# EAGLE library part DPDT_SWITCH (library SeniorDesign)
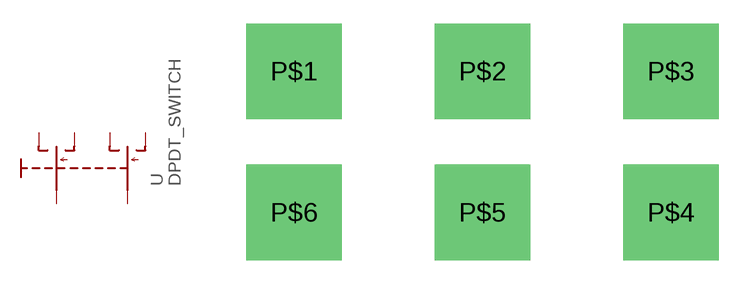
[diagram p10: symbol with the pads of UX0344_DPDT; footprint UX0344_DPDT]

Designator prefix -

## DPDT_SWITCH  [UX0344_DPDT]
P$1  O  pas
P$2  P  pas
P$3  S  pas
P$4  S1  pas
P$5  P1  pas
P$6  O1  pas

## Footprint UX0344_DPDT (pad centres in mm)
drill 5.08 square: P$1 -11.989,4.496; P$2 0,4.496; P$3 11.989,4.496; P$4 11.989,-4.496; P$5 0,-4.496; P$6 -11.989,-4.496